# Altium schematic symbol library PMOS-G1S2D3.SchLib: 1 symbol
Pins are listed as number, name and electrical type; pins without a type are passive.

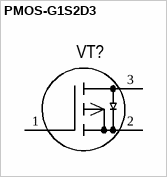
[diagram p0: symbol PMOS-G1S2D3]

## PMOS-G1S2D3
designator VT?  (value not drawn)
pins: 1 G, 2 S, 3 D